# Altium schematic symbol library ULN2803A SOIC.SchLib: 1 symbol
Pins are listed as number, name and electrical type; pins without a type are passive.

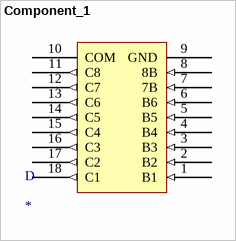
[diagram p0: symbol Component_1]

## Component_1
designator D
footprint SOIC127P1030X265-18N (SOIC, 18-Leads, Body 11.55x7.50mm, Pitch 1.27mm, IPC Medium Density)
pins: 1 B1 (in), 2 B2 (in), 3 B3 (in), 4 B4 (in), 5 B5 (in), 6 B6 (in) "INPUT 6", 7 7B (in) "INPUT 7", 8 8B (in), 9 GND (power), 10 COM (power) "5V", 11 C8 (out), 12 C7 (out), 13 C6 (out), 14 C5 (out), 15 C4 (out), 16 C3 (out), 17 C2 (out), 18 C1 (out)